# EAGLE library part IMCV3 (library con-phoenix-381)
Invertierter Mini-Combicon 3.81mm vertikal 3-polig IMCV 1,5/3-G-3,81 (ohne Gegenstecker)
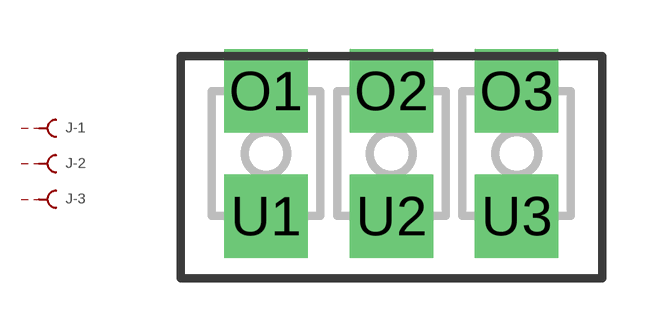
[diagram p36: symbol with the pads of IMCV3; footprint IMCV3]

Designator prefix J; gates -2=MCBU -1=MCBU -3=MCBU

## IMCV3  [IMCV3]
O1  -1:S  pas
O2  -2:S  pas
O3  -3:S  pas
U1  -1:SK  pas
U2  -2:SK  pas
U3  -3:SK  pas

## Footprint IMCV3 (pad centres in mm)
Mini-Combicon 3.81mm vertical 3-polig invertiert IMCV 1,5/3-G-3,81 Artikel-Nr. 1875438
drill 1.27 pad 2.54 square: O1 -3.81,1.905; O2 0,1.905; O3 3.81,1.905; U1 -3.81,-1.905; U2 0,-1.905; U3 3.81,-1.905